# Altium schematic symbol library GL827L.SchLib: 1 symbol
Pins are listed as number, name and electrical type; pins without a type are passive.

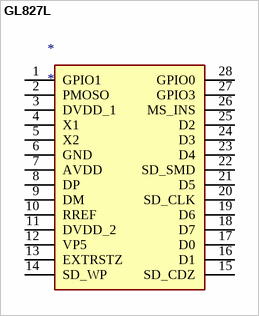
[diagram p0: symbol GL827L]

## GL827L
designator *
pins: 1 GPIO1, 2 PMOSO, 3 DVDD_1, 4 X1, 5 X2, 6 GND, 7 AVDD, 8 DP, 9 DM, 10 RREF, 11 DVDD_2, 12 VP5, 13 EXTRSTZ, 14 SD_WP, 15 SD_CDZ, 16 D1, 17 D0, 18 D7, 19 D6, 20 SD_CLK, 21 D5, 22 SD_SMD, 23 D4, 24 D3, 25 D2, 26 MS_INS, 27 GPIO3, 28 GPIO0